# Altium schematic symbol library fuse.SchLib: 11 symbols
Pins are listed as number, name and electrical type; pins without a type are passive.

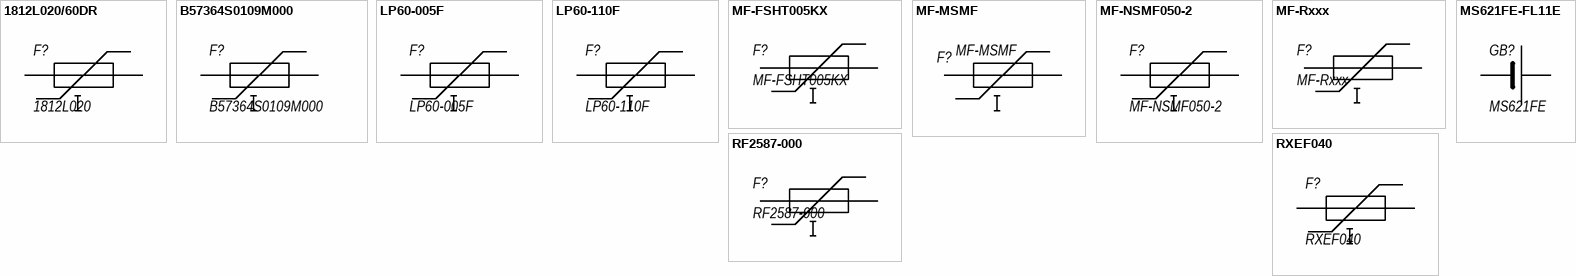
[diagram p0: symbols 1812L020/60DR to RXEF040]

## 1812L020/60DR
designator F?, comment 1812L020
PTC Resettable Fuse 0.2A(hold) 0.4A(trip) 60VDC 40A 0.8W 2s 1.4Ohm SMD; Part Number: 1812L020/60DR; Manufacturer: Littelfuse; BOM1: SMD 1812 1812L020/60DR; ValueBOM: 1812L020/60DR   Littelfuse; Package: SMD 1812; BOM2: SMD 1812 1812L020/60DR; Value: 1812L020
footprint FUSE_1812L010DR
pins: 1, 2

## B57364S0109M000
designator F?
NTC Inrush Current Limiters, Resistance (at 25℃)=1Ω, Maximum Current=16A; Manufacturer: TDK; ValueBOM: B57364S0109M000   TDK; Part Number: B57364S0109M000; BOM1: B57364S0109M000; BOM2: B57364S0109M000; Value: B57364S0109M000
footprint B57364S0109M000
pins: 1, 2

## LP60-005F
designator F?
PTC 0.05A(hold) 0.1A(trip) 60V 40A 0.26W 5s 7.3Ohm Radial 4 X 3.1mm, Bulk -40C...+85C; Manufacturer: Wayon; BOM1: 4.0mm x 3.1mm RXEF040; ValueBOM: LP60-005F   Wayon; Part Number: LP60-005F; Package: 4.0mm x 3.1mm; BOM2: 4.0mm x 3.1mm RXEF040; Value: LP60-005F
footprint LP60-005F (PTC Resettable Fuse, Through Hole Mount, RADIAL LEADED)
pins: 1, 2

## LP60-110F
designator F?
Polymer PTC Devices 1.1A(hold) 2.2A(trip) 60V 40A 1.51W 8.2s 0.14Ohm Radial 13 X 3.1mm, Bulk; Manufacturer: Wayon; BOM1: 5.0mm LP60-110F; ValueBOM: LP60-110F   Wayon; Part Number: LP60-110F; Package: 5.0mm; BOM2: 5.0mm LP60-110F; Value: LP60-110F
footprint LP60-110F (PTC Resettable Fuse, Through Hole Mount, RADIAL LEADED)
pins: 1, 2

## MF-FSHT005KX
designator F?
MF-FSHT005KX-2, Resettable Fuse, PPTC, 0603 (1608 Metric), MF-FSHT Series, 12 В, 50 мА, 250 мА, 1.5 с; Value: MF-FSHT005KX
footprint MF-FSML/X (MF-FSML/X Series, Resettable Fuse, PPTC, 0603 (1608 Metric))
pins: 1, 2

## MF-MSMF
designator F?
PTC Resettable Fuse 1.5A(hold) 3A(trip) 6V 100A 0.8W 0.5s 0.03Ohm SMD; Value: MF-MSMF
footprint FUSE_1812L010DR
pins: 1, 2

## MF-NSMF050-2
designator F?
PTC Resettable Fuse 0.5A(hold) 1A(trip) 13.2VDC 100A 0.4W 0.15Ohm SMD; Manufacturer: Bourns; BOM1: SMD 1206 MF-NSMF050-2; ValueBOM: MF-NSMF050-2   Bourns; Part Number: MF-NSMF050-2; Package: SMD 1206; BOM2: SMD 1206 MF-NSMF050-2; Value: MF-NSMF050-2
footprint FUSE_3216X85N
pins: 1, 2

## MF-Rxxx
designator F?
MultiFuse, PTC Resettable Fuse 6A(hold) 12A(trip) 30V 40A 3.5W 0.005Oh SMD; Value: MF-MSMF
footprint MF-R600
pins: 1, 2

## MS621FE-FL11E
designator GB?, comment MS621FE
MS Lithium Rechargeable Battery MS621FE; Part Number: MS621FE-FL11E; Manufacturer: Seiko; BOM1: SMD 6.8 x 2.1 mm MS621FE-FL11E; ValueBOM: MS621FE-FL11E   Seiko; Package: SMD 6.8 x 2.1 mm; BOM2: SMD 6.8 x 2.1 mm MS621FE-FL11E; Value: MS621FE
footprint MS621TFL11E
pins: 1 +, 2 -

## RF2587-000
designator F?
Littelfuse FEM SMD RESETTABLE FUSE; Value: RF2587-000
footprint MF-FSML/X (MF-FSML/X Series, Resettable Fuse, PPTC, 0603 (1608 Metric))
pins: 1, 2

## RXEF040
designator F?
Polyswitch resettable devices Radial-leaded devices 72V 400mA; Manufacturer: Littelfuse,Inc.; BOM1: 7.60mm x 3.00mm RXEF040; ValueBOM: RXEF040   Littelfuse,Inc.; Part Number: RXEF040; Package: 7.60mm x 3.00mm; BOM2: 7.60mm x 3.00mm RXEF040; Value: RXEF040
footprint 0ZRR0040FF1E (OZRR0040FF1E Ф7.6 h13.5 w3.1 c/f5.1 1.1 Ф0.51 mm)
pins: 1, 2